# EAGLE library part ATTINY85-ARDUINO (library Qwiic-Bluetooth-HC1x)
Atmel 8-pin 2/4/8kB flash uC
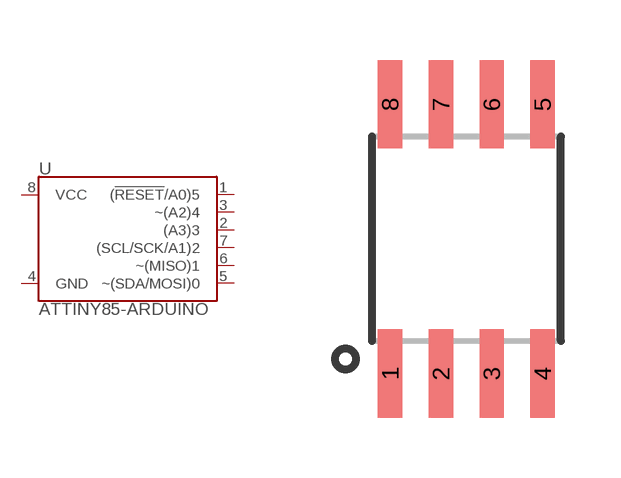
[diagram p3: symbol with the pads of SO08-EIAJ_MCU; footprint SO08-EIAJ_MCU]

Designator prefix U

## ATTINY85-ARDUINOTINY85-20-SMT (PROD_ID: IC-09092; VALUE: Tiny85-20-SMT)  [SO08-EIAJ_MCU]
1  (!RESET!/A0)5
2  (A3)3
3  ~(A2)4
4  GND
5  ~(SDA/MOSI)0
6  ~(MISO)1
7  (SCL/SCK/A1)2
8  VCC

## Footprint SO08-EIAJ_MCU (pad centres in mm)
Fits EIAJ packages (wide version of the SOIC-8).
smd 0.61 x 2.21: 1 -1.905,-3.378; 2 -0.635,-3.378; 3 0.635,-3.378; 4 1.905,-3.378; 5 1.905,3.353; 6 0.635,3.353; 7 -0.635,3.353; 8 -1.905,3.353